# Altium schematic symbol library Sheye-model.SchLib: 29 symbols
Pins are listed as number, name and electrical type; pins without a type are passive.

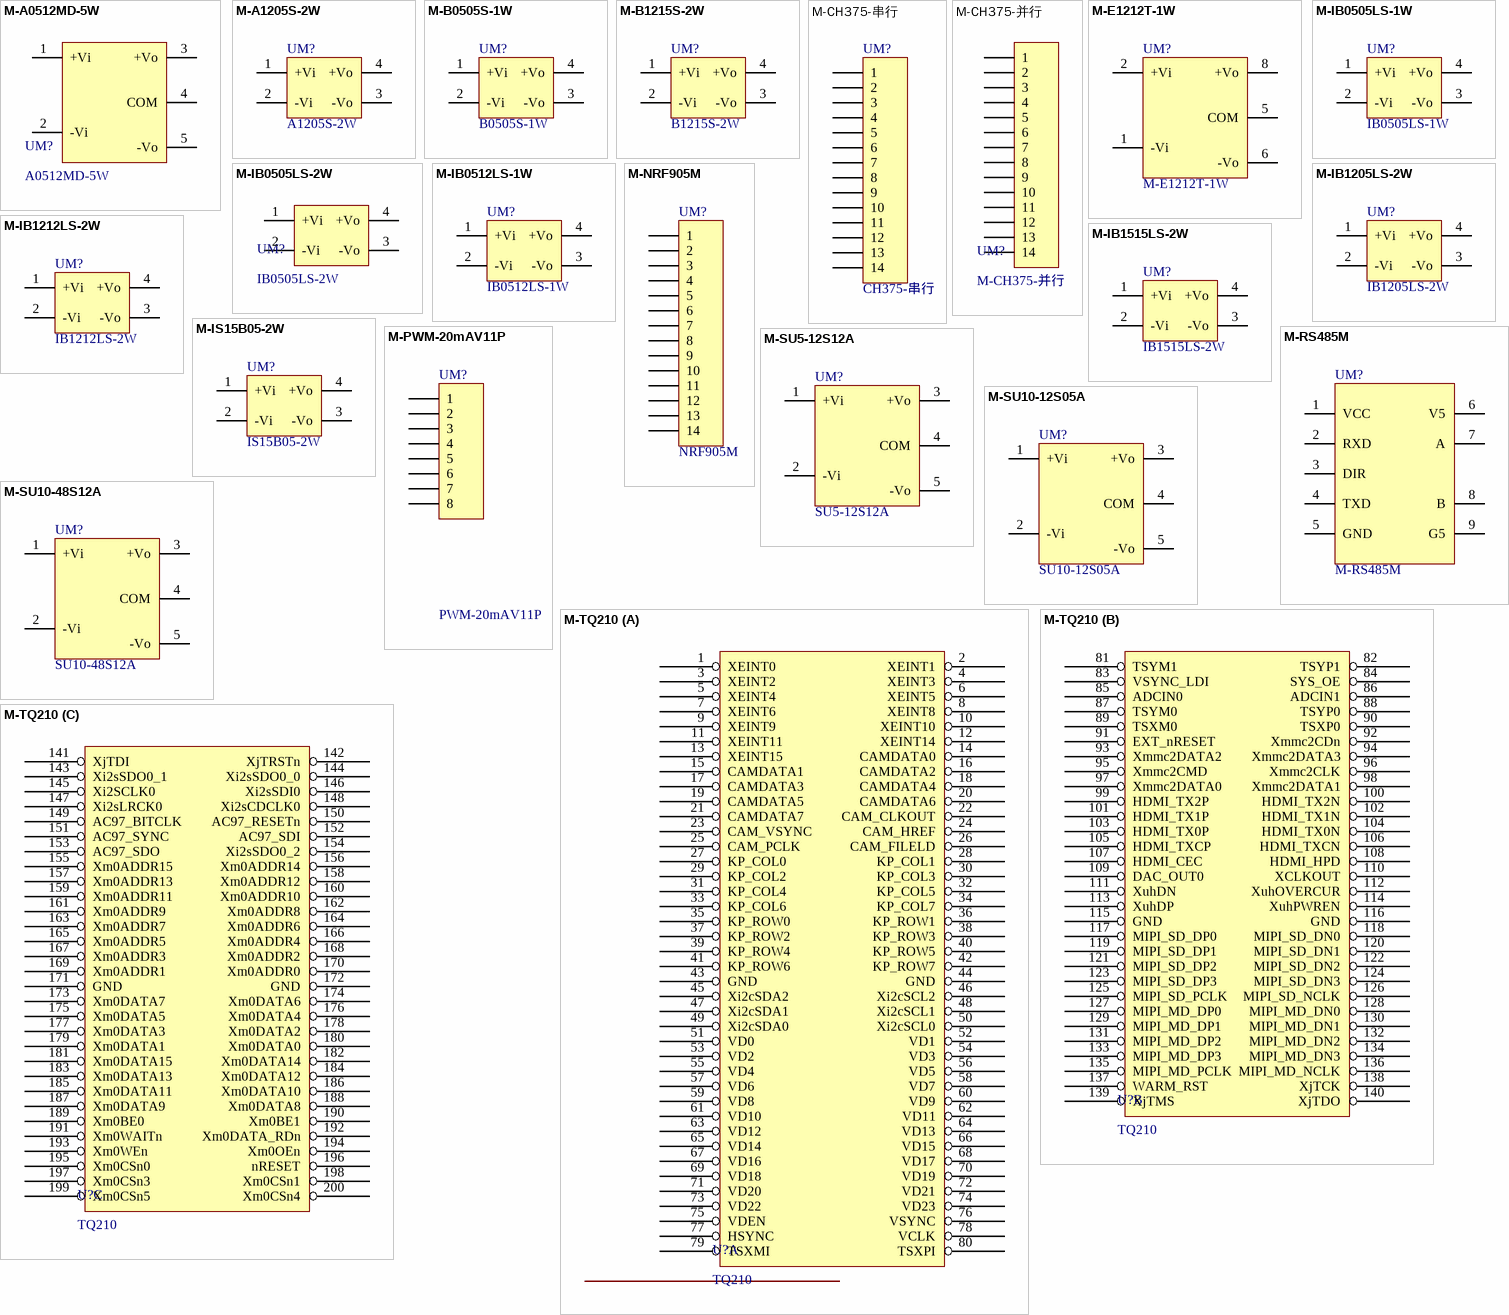
[diagram p0: symbols M-A0512MD-5W to M-TQ210]

## M-A0512MD-5W
designator UM?, comment A0512MD-5W
DC-DC模块; 货品编码: 354002
footprint DC-SU5-XXSYYA
pins: 1 +Vi, 2 -Vi, 3 +Vo, 4 COM, 5 -Vo

## M-A1205S-2W
designator UM?, comment A1205S-2W
DCDC模块; 货品编码: 354006
footprint DC-S-SIP7
pins: 1 +Vi, 2 -Vi, 3 -Vo, 4 +Vo
1 alternate drawing of the same symbol

## M-B0505S-1W
designator UM?, comment B0505S-1W
DCDC模块; 货品编码: 354021
footprint DC-S-SIP7
pins: 1 +Vi, 2 -Vi, 3 -Vo, 4 +Vo
1 alternate drawing of the same symbol

## M-B1215S-2W
designator UM?, comment B1215S-2W
DCDC模块; 货品编码: 354010
footprint DC-S-SIP7
pins: 1 +Vi, 2 -Vi, 3 -Vo, 4 +Vo
1 alternate drawing of the same symbol

## M-CH375-串行
designator UM?, comment CH375-串行
U盘模块; 货品编码: 342007
footprint CH375 (Footprint not found)
footprint NRF905M (Footprint not found)
pins: 1, 2, 3, 4, 5, 6, 7, 8, 9, 10, 11, 12, 13, 14

## M-CH375-并行
designator UM?
U盘模块; 货品编码: 342012
footprint CH375
pins: 1, 2, 3, 4, 5, 6, 7, 8, 9, 10, 11, 12, 13, 14

## M-E1212T-1W
designator UM?
DC-DC模块; 生产商: 金升阳; 货品编码: 无样品无编码
footprint DC-ILEAD-12N-10P (Footprint not found)
pins: 1 -Vi, 2 +Vi, 5 COM, 6 -Vo, 8 +Vo
1 alternate drawing of the same symbol

## M-IB0505LS-1W
designator UM?, comment IB0505LS-1W
DCDC模块; 货品编码: 354001; 生产商: 赛思德电源
footprint DC-S-SIP7
pins: 1 +Vi, 2 -Vi, 3 -Vo, 4 +Vo
1 alternate drawing of the same symbol

## M-IB0505LS-2W
designator UM?, comment IB0505LS-2W
DCDC模块; 货品编码: 354015
footprint DC-S-SIP7
pins: 1 +Vi, 2 -Vi, 3 -Vo, 4 +Vo

## M-IB0512LS-1W
designator UM?, comment IB0512LS-1W
DCDC模块; 货品编码: 354009
footprint DC-S-SIP7
pins: 1 +Vi, 2 -Vi, 3 -Vo, 4 +Vo
1 alternate drawing of the same symbol

## M-IB1205LS-2W
designator UM?, comment IB1205LS-2W
DCDC模块; 货品编码: 354012
footprint DC-S-SIP7
pins: 1 +Vi, 2 -Vi, 3 -Vo, 4 +Vo
1 alternate drawing of the same symbol

## M-IB1212LS-2W
designator UM?, comment IB1212LS-2W
DCDC模块; 货品编码: 无样品无编码; 生产商: 赛思德; 备注: *; 供应商: *; 规格型号: IB1212LS-2W
footprint DC-S-SIP7
pins: 1 +Vi, 2 -Vi, 3 -Vo, 4 +Vo
1 alternate drawing of the same symbol

## M-IB1515LS-2W
designator UM?, comment IB1515LS-2W
DCDC模块; 货品编码: 354004
footprint DC-S-SIP7
pins: 1 +Vi, 2 -Vi, 3 -Vo, 4 +Vo
1 alternate drawing of the same symbol

## M-IS15B05-2W
designator UM?, comment IS15B05-2W
DCDC模块; 货品编码: 354015
footprint DC-S-SIP7
pins: 1 +Vi, 2 -Vi, 3 -Vo, 4 +Vo
1 alternate drawing of the same symbol

## M-NRF905M
designator UM?, comment NRF905M
RF905模块; 货品编码: 342006
footprint NRF905M-H (Footprint not found)
footprint NRF905M
pins: 1, 2, 3, 4, 5, 6, 7, 8, 9, 10, 11, 12, 13, 14

## M-PWM-20mAV11P
designator UM?, comment PWM-20mAV11P
PWM-20mA模块; 货品编码: 无样品无编码
footprint PWM-20mAV11P
pins: 1, 2, 3, 4, 5, 6, 7, 8

## M-RS485M
designator UM?
485M模块; 货品编码: 830023; 规格型号: RS485模块; 供应商: *; 生产商: *; 备注: *
footprint RS485M
pins: 1 VCC, 2 RXD, 3 DIR, 4 TXD, 5 GND, 6 V5, 7 A, 8 B, 9 G5

## M-SU5-12S12A
designator UM?, comment SU5-12S12A
DCDC模块; 货品编码: 354013
footprint DC-SU5-XXSYYA
pins: 1 +Vi, 2 -Vi, 3 +Vo, 4 COM, 5 -Vo
1 alternate drawing of the same symbol

## M-SU10-12S05A
designator UM?, comment SU10-12S05A
DCDC模块; 货品编码: 354003
footprint DC-SU10-XXSYYA (Footprint not found)
pins: 1 +Vi, 2 -Vi, 3 +Vo, 4 COM, 5 -Vo
1 alternate drawing of the same symbol

## M-SU10-48S12A
designator UM?, comment SU10-48S12A
DCDC模块; 货品编码: 354005
footprint DC-SU10-XXSYYA (Footprint not found)
pins: 1 +Vi, 2 -Vi, 3 +Vo, 4 COM, 5 -Vo
1 alternate drawing of the same symbol

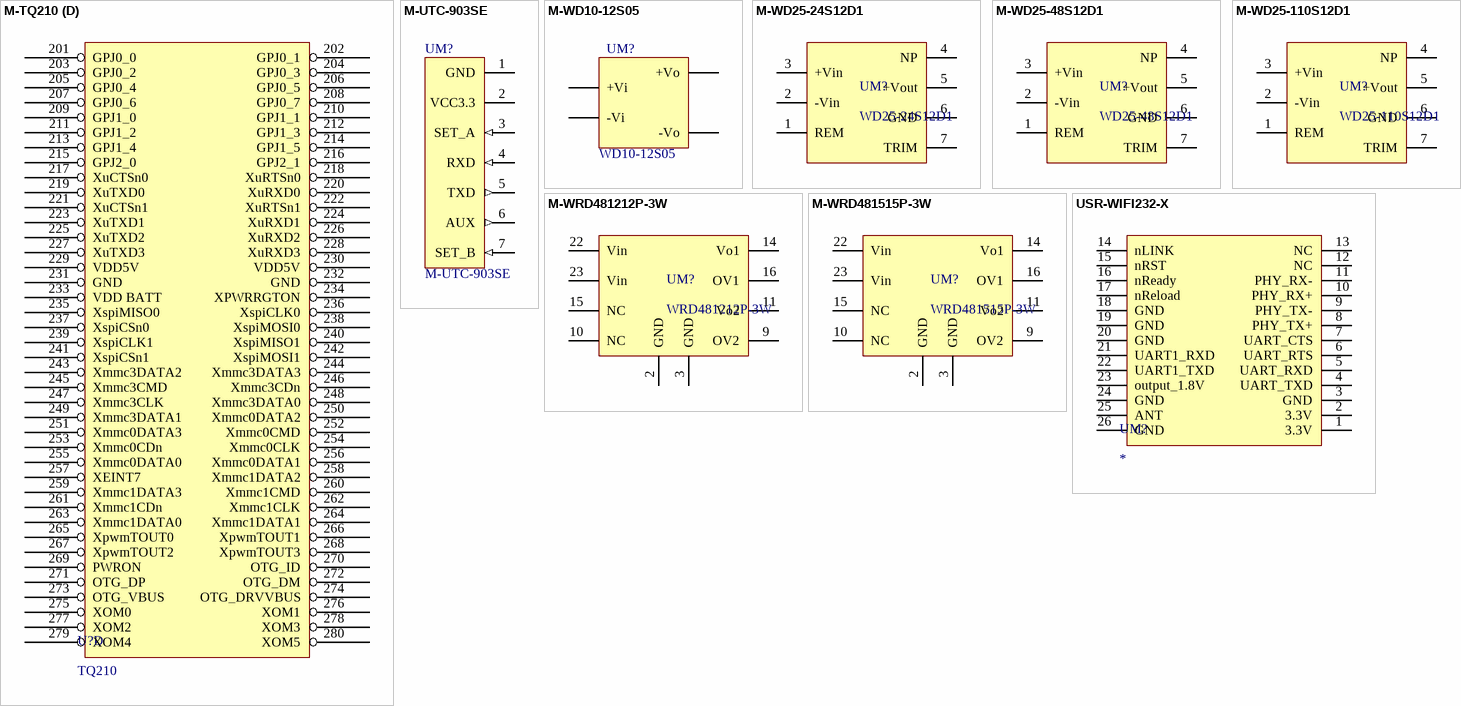
[diagram p1: symbols M-TQ210 to USR-WIFI232-X]

## M-TQ210
designator U?, comment TQ210
集成模块; 货品编码: 107108
footprint CON280_SMD_BOT
footprint CON280_SMD_BOT
part A pins: 1 XEINT0, 2 XEINT1, 3 XEINT2, 4 XEINT3, 5 XEINT4, 6 XEINT5, 7 XEINT6, 8 XEINT8, 9 XEINT9, 10 XEINT10, 11 XEINT11, 12 XEINT14, 13 XEINT15, 14 CAMDATA0, 15 CAMDATA1, 16 CAMDATA2, 17 CAMDATA3, 18 CAMDATA4, 19 CAMDATA5, 20 CAMDATA6, 21 CAMDATA7, 22 CAM_CLKOUT, 23 CAM_VSYNC, 24 CAM_HREF, 25 CAM_PCLK, 26 CAM_FILELD, 27 KP_COL0, 28 KP_COL1, 29 KP_COL2, 30 KP_COL3, 31 KP_COL4, 32 KP_COL5, 33 KP_COL6, 34 KP_COL7, 35 KP_ROW0, 36 KP_ROW1, 37 KP_ROW2, 38 KP_ROW3, 39 KP_ROW4, 40 KP_ROW5, 41 KP_ROW6, 42 KP_ROW7, 43 GND, 44 GND, 45 Xi2cSDA2, 46 Xi2cSCL2, 47 Xi2cSDA1, 48 Xi2cSCL1, 49 Xi2cSDA0, 50 Xi2cSCL0, 51 VD0, 52 VD1, 53 VD2, 54 VD3, 55 VD4, 56 VD5, 57 VD6, 58 VD7, 59 VD8, 60 VD9, 61 VD10, 62 VD11, 63 VD12, 64 VD13, 65 VD14, 66 VD15, 67 VD16, 68 VD17, 69 VD18, 70 VD19, 71 VD20, 72 VD21, 73 VD22, 74 VD23, 75 VDEN, 76 VSYNC, 77 HSYNC, 78 VCLK, 79 TSXMI, 80 TSXPI
part B pins: 81 TSYM1, 82 TSYP1, 83 VSYNC_LDI, 84 SYS_OE, 85 ADCIN0, 86 ADCIN1, 87 TSYM0, 88 TSYP0, 89 TSXM0, 90 TSXP0, 91 EXT_nRESET, 92 Xmmc2CDn, 93 Xmmc2DATA2, 94 Xmmc2DATA3, 95 Xmmc2CMD, 96 Xmmc2CLK, 97 Xmmc2DATA0, 98 Xmmc2DATA1, 99 HDMI_TX2P, 100 HDMI_TX2N, 101 HDMI_TX1P, 102 HDMI_TX1N, 103 HDMI_TX0P, 104 HDMI_TX0N, 105 HDMI_TXCP, 106 HDMI_TXCN, 107 HDMI_CEC, 108 HDMI_HPD, 109 DAC_OUT0, 110 XCLKOUT, 111 XuhDN, 112 XuhOVERCUR, 113 XuhDP, 114 XuhPWREN, 115 GND, 116 GND, 117 MIPI_SD_DP0, 118 MIPI_SD_DN0, 119 MIPI_SD_DP1, 120 MIPI_SD_DN1, 121 MIPI_SD_DP2, 122 MIPI_SD_DN2, 123 MIPI_SD_DP3, 124 MIPI_SD_DN3, 125 MIPI_SD_PCLK, 126 MIPI_SD_NCLK, 127 MIPI_MD_DP0, 128 MIPI_MD_DN0, 129 MIPI_MD_DP1, 130 MIPI_MD_DN1, 131 MIPI_MD_DP2, 132 MIPI_MD_DN2, 133 MIPI_MD_DP3, 134 MIPI_MD_DN3, 135 MIPI_MD_PCLK, 136 MIPI_MD_NCLK, 137 WARM_RST, 138 XjTCK, 139 XjTMS, 140 XjTDO
part C pins: 141 XjTDI, 142 XjTRSTn, 143 Xi2sSDO0_1, 144 Xi2sSDO0_0, 145 Xi2SCLK0, 146 Xi2sSDI0, 147 Xi2sLRCK0, 148 Xi2sCDCLK0, 149 AC97_BITCLK, 150 AC97_RESETn, 151 AC97_SYNC, 152 AC97_SDI, 153 AC97_SDO, 154 Xi2sSDO0_2, 155 Xm0ADDR15, 156 Xm0ADDR14, 157 Xm0ADDR13, 158 Xm0ADDR12, 159 Xm0ADDR11, 160 Xm0ADDR10, 161 Xm0ADDR9, 162 Xm0ADDR8, 163 Xm0ADDR7, 164 Xm0ADDR6, 165 Xm0ADDR5, 166 Xm0ADDR4, 167 Xm0ADDR3, 168 Xm0ADDR2, 169 Xm0ADDR1, 170 Xm0ADDR0, 171 GND, 172 GND, 173 Xm0DATA7, 174 Xm0DATA6, 175 Xm0DATA5, 176 Xm0DATA4, 177 Xm0DATA3, 178 Xm0DATA2, 179 Xm0DATA1, 180 Xm0DATA0, 181 Xm0DATA15, 182 Xm0DATA14, 183 Xm0DATA13, 184 Xm0DATA12, 185 Xm0DATA11, 186 Xm0DATA10, 187 Xm0DATA9, 188 Xm0DATA8, 189 Xm0BE0, 190 Xm0BE1, 191 Xm0WAITn, 192 Xm0DATA_RDn, 193 Xm0WEn, 194 Xm0OEn, 195 Xm0CSn0, 196 nRESET, 197 Xm0CSn3, 198 Xm0CSn1, 199 Xm0CSn5, 200 Xm0CSn4
part D pins: 201 GPJ0_0, 202 GPJ0_1, 203 GPJ0_2, 204 GPJ0_3, 205 GPJ0_4, 206 GPJ0_5, 207 GPJ0_6, 208 GPJ0_7, 209 GPJ1_0, 210 GPJ1_1, 211 GPJ1_2, 212 GPJ1_3, 213 GPJ1_4, 214 GPJ1_5, 215 GPJ2_0, 216 GPJ2_1, 217 XuCTSn0, 218 XuRTSn0, 219 XuTXD0, 220 XuRXD0, 221 XuCTSn1, 222 XuRTSn1, 223 XuTXD1, 224 XuRXD1, 225 XuTXD2, 226 XuRXD2, 227 XuTXD3, 228 XuRXD3, 229 VDD5V, 230 VDD5V, 231 GND, 232 GND, 233 VDD BATT, 234 XPWRRGTON, 235 XspiMISO0, 236 XspiCLK0, 237 XspiCSn0, 238 XspiMOSI0, 239 XspiCLK1, 240 XspiMISO1, 241 XspiCSn1, 242 XspiMOSI1, 243 Xmmc3DATA2, 244 Xmmc3DATA3, 245 Xmmc3CMD, 246 Xmmc3CDn, 247 Xmmc3CLK, 248 Xmmc3DATA0, 249 Xmmc3DATA1, 250 Xmmc0DATA2, 251 Xmmc0DATA3, 252 Xmmc0CMD, 253 Xmmc0CDn, 254 Xmmc0CLK, 255 Xmmc0DATA0, 256 Xmmc0DATA1, 257 XEINT7, 258 Xmmc1DATA2, 259 Xmmc1DATA3, 260 Xmmc1CMD, 261 Xmmc1CDn, 262 Xmmc1CLK, 263 Xmmc1DATA0, 264 Xmmc1DATA1, 265 XpwmTOUT0, 266 XpwmTOUT1, 267 XpwmTOUT2, 268 XpwmTOUT3, 269 PWRON, 270 OTG_ID, 271 OTG_DP, 272 OTG_DM, 273 OTG_VBUS, 274 OTG_DRVVBUS, 275 XOM0, 276 XOM1, 277 XOM2, 278 XOM3, 279 XOM4, 280 XOM5

## M-UTC-903SE
designator UM?
UTC-903模块; 货品编码: 342022
footprint UTC-903SE
pins: 1 GND, 2 VCC3.3, 3 SET_A (in), 4 RXD (in), 5 TXD (out), 6 AUX (out), 7 SET_B (in)

## M-WD10-12S05
designator UM?, comment WD10-12S05
DCDC模块; 货品编码: 354014
footprint DC-WD10-12S05
pins: +Vi, +Vo, -Vi, -Vo
1 alternate drawing of the same symbol

## M-WD25-24S12D1
designator UM?, comment WD25-24S12D1
DC-DC模块; 货品编码: 342020
footprint DC-WD25-XXS12D1 (DC-DC模块)
pins: 1 REM, 2 -Vin, 3 +Vin, 4 NP, 5 +Vout, 6 GND, 7 TRIM

## M-WD25-48S12D1
designator UM?, comment WD25-48S12D1
DC-DC模块; 货品编码: 342019
footprint DC-WD25-XXS12D1 (DC-DC模块)
pins: 1 REM, 2 -Vin, 3 +Vin, 4 NP, 5 +Vout, 6 GND, 7 TRIM

## M-WD25-110S12D1
designator UM?, comment WD25-110S12D1
DC-DC模块; 货品编码: 342021
footprint DC-WD25-XXS12D1 (DC-DC模块)
pins: 1 REM, 2 -Vin, 3 +Vin, 4 NP, 5 +Vout, 6 GND, 7 TRIM

## M-WRD481212P-3W
designator UM?, comment WRD481212P-3W
DC-DC模块; 货品编码: 354007
footprint DC-WRD48XXYYP (DC-DC模块)
pins: 2 GND, 3 GND, 9 OV2, 10 NC, 11 Vo2, 14 Vo1, 15 NC, 16 OV1, 22 Vin, 23 Vin

## M-WRD481515P-3W
designator UM?, comment WRD481515P-3W
DC-DC模块; 货品编码: 354008
footprint DC-WRD48XXYYP (DC-DC模块)
pins: 2 GND, 3 GND, 9 OV2, 10 NC, 11 Vo2, 14 Vo1, 15 NC, 16 OV1, 22 Vin, 23 Vin

## USR-WIFI232-X
designator UM?
集成模块-通信; 规格型号: URS-WIFI232-X-贴片型-外带天线; 货品编码: 107099
footprint USR-WIFI232-X
footprint USR-WIFI232-X
pins: 1 3.3V, 2 3.3V, 3 GND, 4 UART_TXD, 5 UART_RXD, 6 UART_RTS, 7 UART_CTS, 8 PHY_TX+, 9 PHY_TX-, 10 PHY_RX+, 11 PHY_RX-, 12 NC, 13 NC, 14 nLINK, 15 nRST, 16 nReady, 17 nReload, 18 GND, 19 GND, 20 GND, 21 UART1_RXD, 22 UART1_TXD, 23 output_1.8V, 24 GND, 25 ANT, 26 GND